# Altium schematic symbol library LM393LV.SchLib: 1 symbol
Pins are listed as number, name and electrical type; pins without a type are passive.

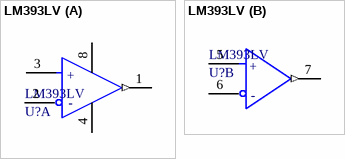
[diagram p0: symbol LM393LV]

## LM393LV
designator U?
IC DUAL DIFF COMPARATOR 8-SOIC
part A pins: 1 1OUT (out), 2 1IN- (hiz), 3 1IN+ (hiz), 4 GND (power), 8 VCC (power)
part B pins: 5 2IN+ (hiz), 6 2IN- (hiz), 7 2OUT (out)
part A text: +; -
part B text: +; -